# Altium footprint library mylib.PcbLib: 214 footprints (part 2 of 14)
Each footprint in its own frame and in the unit in brackets; x right, y up, seen from the top. Pads: shape width x height; smd on the part's side, far side on the other; paste and mask are expansions set on the pad; w line width, h text height; cw(c..) or ccw(c..) is an arc to the next point about the centre after c.
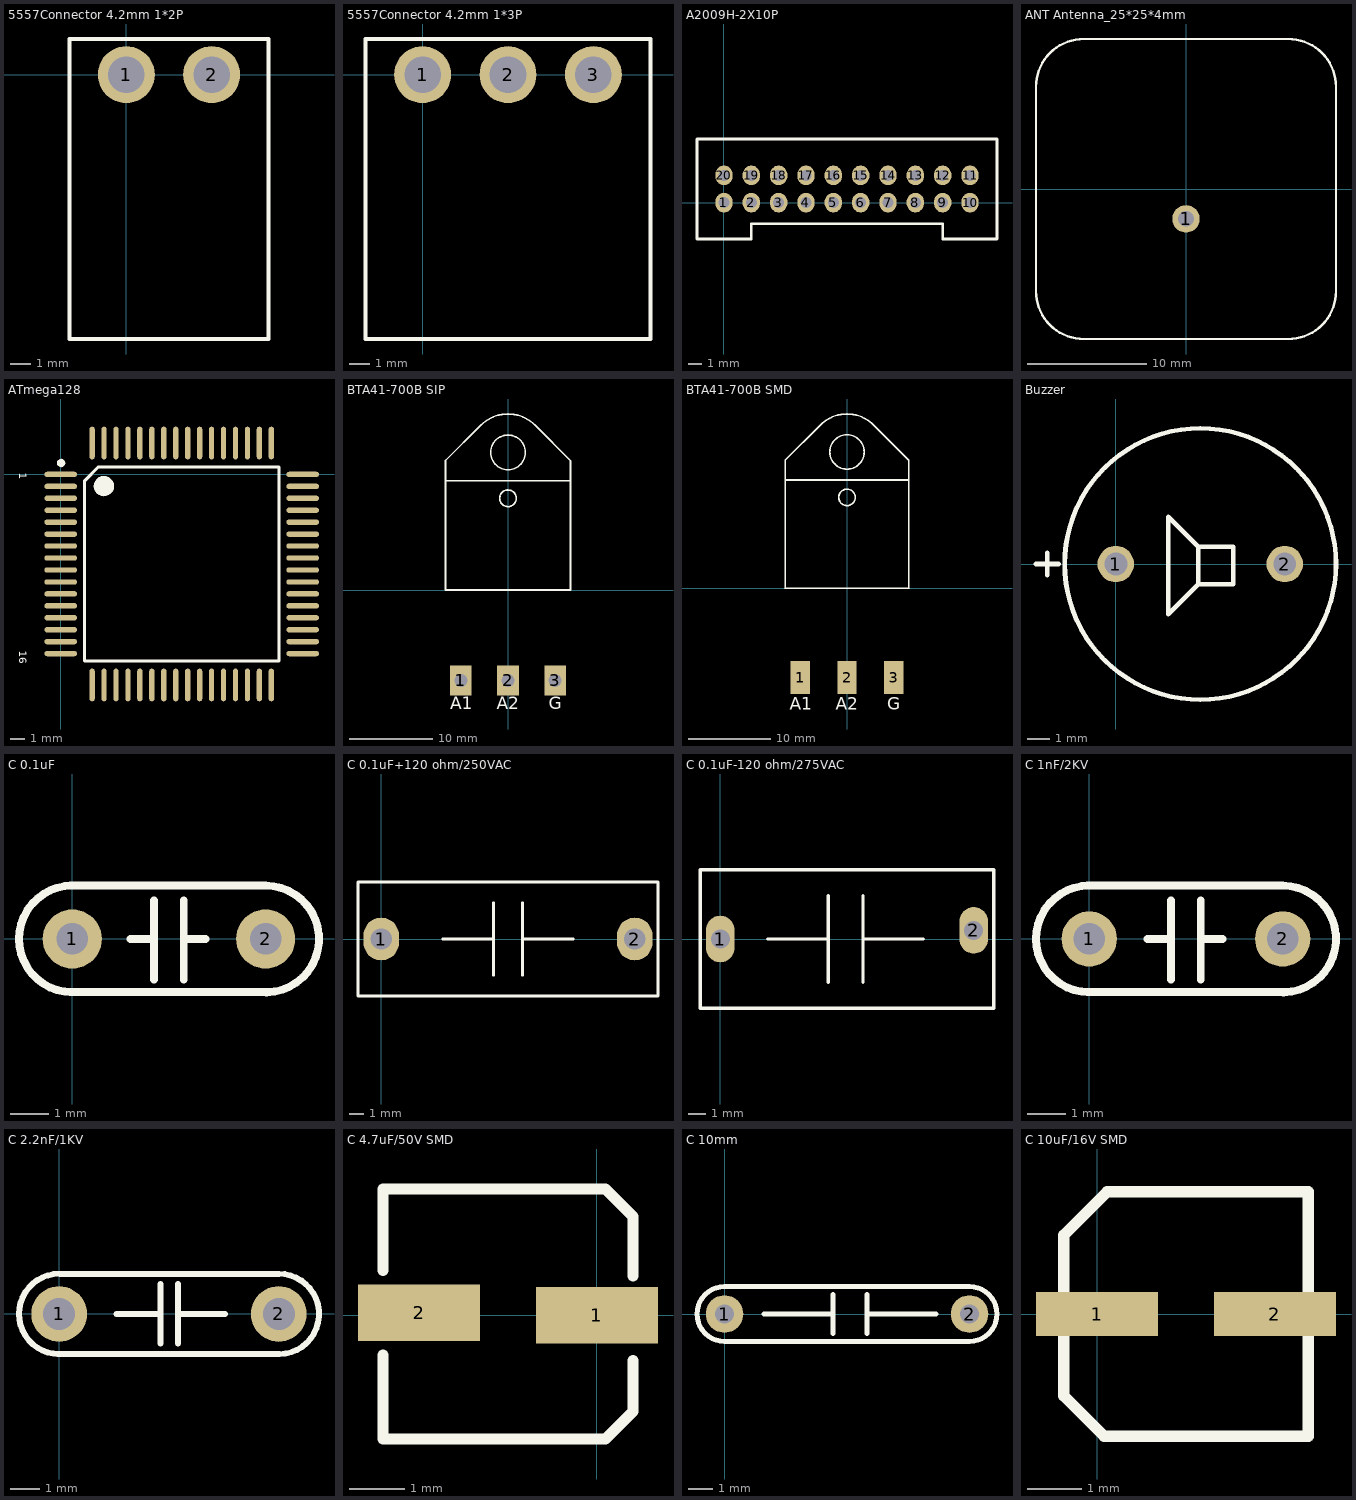
[diagram p1: the footprints below, top view; thin cyan lines are the x and y axes]

## 5557Connector 4.2mm 1*2P [mm]
pads (2):
  round 2.8 hole 1.8: 1(0,0) 2(4.2,0)
Top Overlay:
  lines w0.203: -2.8,-13 -2.8,1.753 7,1.753 7,-13 -2.8,-13

## 5557Connector 4.2mm 1*3P [mm]
pads (3):
  round 2.8 hole 1.8: 1(0,0) 2(4.2,0) 3(8.4,0)
Top Overlay:
  lines w0.203: -2.8,-13 11.2,-13 11.2,1.753 -2.8,1.753 -2.8,-13

## A2009H-2X10P [mil]
pads (20):
  oval 50x56 hole 32: 1(0,0) 2(78.74,0) 3(157.48,0) 4(236.22,0) 5(314.96,0) 6(393.7,0) 7(472.44,0) 8(551.18,0) 9(629.92,0) 10(708.66,0) 11(708.66,78.74) 12(629.92,78.74) 13(551.18,78.74) 14(472.44,78.74) 15(393.7,78.74) 16(314.96,78.74) 17(236.22,78.74) 18(157.48,78.74) 19(78.74,78.74) 20(0,78.74)
Top Overlay:
  lines w8: -77.67,-104.63 -77.67,183.37 786.33,183.37 786.33,-104.63 629.92,-104.63 629.92,-60.63 78.74,-60.63 78.74,-104.63 -77.67,-104.63

## ANT Antenna_25*25*4mm [mm]
pads (1):
  round 2.3 hole 1.3: 1(0,-2.5)
Top Overlay:
  lines w0.2: -12.55,-8.55 ccw(c-8.55,-8.55) -8.55,-12.55 8.55,-12.55 ccw(c8.55,-8.55) 12.55,-8.55 12.55,8.55 ccw(c8.55,8.55) 8.55,12.55 -8.55,12.55 ccw(c-8.55,8.55) -12.55,8.55 -12.55,-8.55

## ATmega128 [mil]
pads (64):
  oval 86x14 smd: 1(0,0) 2(0,-31.5) 3(0,-62.99) 4(0,-94.49) 5(0,-125.98) 6(0,-157.48) 7(0,-188.98) 8(0,-220.47) 9(0,-251.97) 10(0,-283.46) 11(0,-314.96) 12(0,-346.46) 13(0,-377.95) 14(0,-409.45) 15(0,-440.94) 16(0,-472.44) 33(637.79,-472.44) 34(637.79,-440.94) 35(637.79,-409.45) 36(637.79,-377.95) 37(637.79,-346.46) 38(637.79,-314.96) 39(637.79,-283.46) 40(637.79,-251.97) 41(637.79,-220.47) 42(637.79,-188.98) 43(637.79,-157.48) 44(637.79,-125.98) 45(637.79,-94.49) 46(637.79,-62.99) 47(637.79,-31.5) 48(637.79,0)
  oval 14x86 smd: 17(82.68,-555.12) 18(114.17,-555.12) 19(145.67,-555.12) 20(177.16,-555.12) 21(208.66,-555.12) 22(240.16,-555.12) 23(271.65,-555.12) 24(303.15,-555.12) 25(334.64,-555.12) 26(366.14,-555.12) 27(397.64,-555.12) 28(429.13,-555.12) 29(460.63,-555.12) 30(492.13,-555.12) 31(523.62,-555.12) 32(555.12,-555.12) 49(555.12,82.68) 50(523.62,82.68) 51(492.13,82.68) 52(460.63,82.68) 53(429.13,82.68) 54(397.64,82.68) 55(366.14,82.68) 56(334.64,82.68) 57(303.15,82.68) 58(271.65,82.68) 59(240.16,82.68) 60(208.66,82.68) 61(177.16,82.68) 62(145.67,82.68) 63(114.17,82.68) 64(82.68,82.68)
Top Overlay:
  region: 1,19.36 -3.07,20.17 -6.53,22.47 -8.83,25.93 -9.64,30 -8.83,34.07 -6.53,37.53 -3.07,39.83 1,40.64 5.07,39.83 8.53,37.53 10.83,34.07 11.64,30 10.83,25.93 8.53,22.47 5.07,20.17
  region: 87.1,-30.98 88,-37.83 90.65,-44.21 94.85,-49.7 100.34,-53.9 106.72,-56.55 113.57,-57.45 120.43,-56.55 126.81,-53.9 132.29,-49.7 136.5,-44.21 139.15,-37.83 140.05,-30.98 139.15,-24.12 136.5,-17.74 132.29,-12.25 126.81,-8.05 120.43,-5.4 113.57,-4.5 106.72,-5.4 100.34,-8.05 94.85,-12.25 90.65,-17.74 88,-24.12
  lines w8: 63.06,-491.95 574.87,-491.95 574.87,19.86 99.38,19.86 63.06,-16.47 63.06,-491.95
  text "16" at -110,-465 h20
  text "1" at -110,4 h20

## BTA41-700B SIP [mil]
pads (3):
  rect 102x142 hole 62: 1(-222.54,-426.06) 2(0,-426.06) 3(222.54,-426.06)
Top Overlay:
  circle w8: c0,649.61 r82.09
  circle w8: c0,433.07 r39.37
  lines w8: -295.28,0 295.28,0 ; -295,0 -295,611 -128.2,777.8 ; -295,515.75 294.98,515.75 ; -128.06,777.67 cw(c0,649.61) 128.06,777.67 295,610.72 295,0
  text "A1" at -272,-585 h100
  text "A2" at -52,-585 h100
  text "G" at 193,-585 h100

## BTA41-700B SMD [mil]
pads (3):
  rect 92x157.48 smd: 1(-222.54,-426.06) 2(0,-426.06) 3(222.54,-426.06)
Top Overlay:
  circle w8: c0,433.07 r39.37
  circle w8: c0,649.61 r82.09
  lines w8: -295.28,0 295.28,0 ; -295,0 -295,611 -128.2,777.8 ; -295,515.75 294.98,515.75 ; -128.06,777.67 cw(c0,649.61) 128.06,777.67 295,610.72 295,0
  text "A1" at -274,-600 h100
  text "A2" at -54,-600 h100
  text "G" at 191,-600 h100

## Buzzer [mil]
pads (2):
  round 63 hole 39.5: 1(0,0) 2(291.73,0)
Top Overlay:
  circle w8: c145.87,0 r234.25
  lines w8: -137.8,0 -98.43,0 ; -118.11,-19.68 -118.11,19.68 ; 90.55,81 90.55,-86.45 142,-35 ; 90.78,81.22 142,30 ; 142,-35 203,-35 203,30 142,30 ; 142,-35 142,30

## C 0.1uF [mil]
pads (2):
  round 60 hole 32: 1(0,0) 2(196,0)
Top Overlay:
  lines w8: -2,-54 199,-54 ; -2,54 195,54 ; 0,-54.01 cw(c0,0) 0,54.01 ; 59,0 82,0 ; 83,-41 83,39 ; 113,-41 113,39 ; 114,0 135,0 ; 196,54 cw(c196,-0.08) 197,-54.16

## C 0.1uF+120 ohm/250VAC [mil]
pads (2):
  oval 98x118 hole 59.06: 1(0,0) 2(700,0)
Top Overlay:
  lines w8: 170,0 310,0 ; 310,-100 310,100 ; 390,-100 390,100 ; 390,0 530,0 ; -64,-157.48 -64,157.48 764,157.48 764,-157.48 -64,-157.48

## C 0.1uF-120 ohm/275VAC [mil]
pads (2):
  oval 66x108 hole 44: 1(0,0) 2(586,20)
Top Overlay:
  lines w8: 110,0 250,0 ; 250,-100 250,100 ; 330,-100 330,100 ; 330,0 470,0 ; -47,-160 -47,160 633,160 633,-160 -47,-160

## C 1nF/2KV [mil]
pads (2):
  round 56 hole 32: 1(0,0) 2(196,0)
Top Overlay:
  lines w8: -2,-54 199,-54 ; -2,54 195,54 ; 0,-54.01 cw(c0,0) 0,54.01 ; 59,0 82,0 ; 83,-41 83,39 ; 113,-41 113,39 ; 114,0 135,0 ; 196,54 cw(c196,-0.08) 197,-54.16
3D body: height 296, standoff 0, extent -58.01,-58.16 254.08,58.01

## C 2.2nF/1KV [mil]
pads (2):
  round 75 hole 43: 1(0,0) 2(295.28,0)
Top Overlay:
  lines w8: -2,-54 296.28,-54 ; 0,-54.01 cw(c0,0) 0,54.01 ; 1,54 295.28,54 cw(c295.28,-0.08) 296.28,-54.16 ; 77,0 136,0 ; 136,-40 136,40 ; 160,-40 160,40 ; 160,0 223,0

## C 4.7uF/50V SMD [mil]
pads (2):
  rect 86.61x40 smd: 1(0,0) 2(-125.98,2)
Top Overlay:
  lines w8: -151.57,-28 -151.57,-87.58 6.01,-87.58 25.59,-68 25.59,-32 ; -151.57,32 -151.57,89.58 6.01,89.58 25.59,70 25.59,28

## C 10mm [mil]
pads (2):
  round 60 hole 30: 1(0,0) 2(392,0)
Top Overlay:
  lines w8: 62.99,0 173.23,0 ; 173.23,-31.5 173.23,31.5 ; 228.35,-31.5 228.35,31.5 ; 228.35,0 338.58,0 ; 0,-44 cw(c0,0) 0,44 392,44 cw(c392,0) 392,-44 0,-44

## C 10uF/16V SMD [mil]
pads (2):
  rect 88x32 smd: 1(0,0) 2(128,0)
Top Overlay:
  lines w8: -24,-59 -24,57 7,88 152,88 152,-88 5,-88 -24,-59